# EAGLE library part ESP32_M (library LARS_409_MODULES)
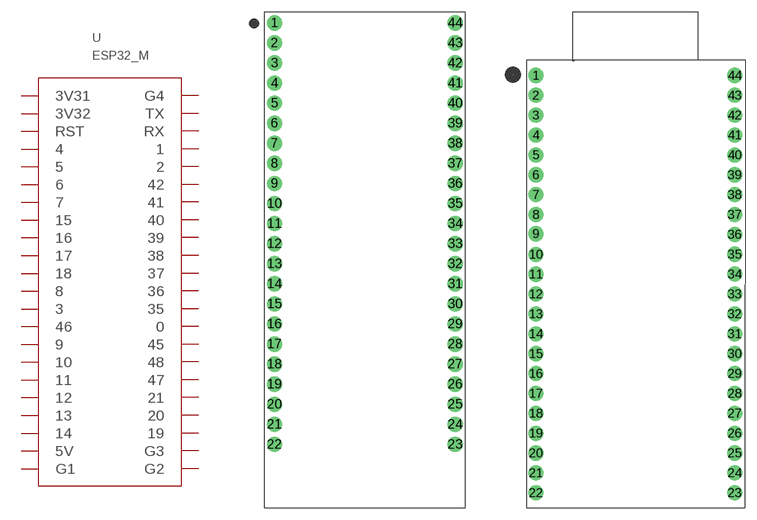
[diagram p16: symbol with the pads of ESP32; footprints ESP32, ESP32-S3-DEVKITC-1]

Designator prefix U

## ESP32_M  [ESP32]
1  3V31
2  3V32
3  RST
4  4
5  5
6  6
7  7
8  15
9  16
10  17
11  18
12  8
13  3
14  46
15  9
16  10
17  11
18  12
19  13
20  14
21  5V
22  G1
23  G2
24  G3
25  19
26  20
27  21
28  47
29  48
30  45
31  0
32  35
33  36
34  37
35  38
36  39
37  40
38  41
39  42
40  2
41  1
42  RX
43  TX
44  G4

## ESP32_MESP32-S3-DEVKITC-1  [ESP32-S3-DEVKITC-1]
Pads as for ESP32

## Footprint ESP32 (pad centres in mm)
drill 1.1 pad 1.93: 1 -11.43,29.97; 2 -11.43,27.43; 3 -11.43,24.89; 4 -11.43,22.35; 5 -11.43,19.81; 6 -11.43,17.27; 7 -11.43,14.73; 8 -11.43,12.19; 9 -11.43,9.65; 10 -11.43,7.11; 11 -11.43,4.57; 12 -11.43,2.03; 13 -11.43,-0.51; 14 -11.43,-3.05; 15 -11.43,-5.59; 16 -11.43,-8.13; 17 -11.43,-10.67; 18 -11.43,-13.21; 19 -11.43,-15.75; 20 -11.43,-18.29; 21 -11.43,-20.83; 22 -11.43,-23.37; 23 11.43,-23.37; 24 11.43,-20.83; 25 11.43,-18.29; 26 11.43,-15.75; 27 11.43,-13.21; 28 11.43,-10.67; 29 11.43,-8.13; 30 11.43,-5.59; 31 11.43,-3.05; 32 11.43,-0.51; 33 11.43,2.03; 34 11.43,4.57; 35 11.43,7.11; 36 11.43,9.65; 37 11.43,12.19; 38 11.43,14.73; 39 11.43,17.27; 40 11.43,19.81; 41 11.43,22.35; 42 11.43,24.89; 43 11.43,27.43; 44 11.43,29.97

## Footprint ESP32-S3-DEVKITC-1 (pad centres in mm)
drill 1.1 pad 1.93: 1 -12.7,26.675; 2 -12.7,24.135; 3 -12.7,21.595; 4 -12.7,19.055; 5 -12.7,16.515; 6 -12.7,13.975; 7 -12.7,11.435; 8 -12.7,8.895; 9 -12.7,6.445; 10 -12.7,3.815; 11 -12.7,1.275; 12 -12.7,-1.265; 13 -12.7,-3.805; 14 -12.7,-6.345; 15 -12.7,-8.885; 16 -12.7,-11.425; 17 -12.7,-13.965; 18 -12.7,-16.505; 19 -12.7,-19.045; 20 -12.7,-21.585; 21 -12.7,-24.125; 22 -12.7,-26.665; 23 12.7,-26.66; 24 12.7,-24.12; 25 12.7,-21.58; 26 12.7,-19.04; 27 12.7,-16.5; 28 12.7,-13.96; 29 12.7,-11.42; 30 12.7,-8.88; 31 12.7,-6.34; 32 12.7,-3.8; 33 12.7,-1.26; 34 12.7,1.28; 35 12.7,3.82; 36 12.7,6.36; 37 12.7,8.9; 38 12.7,11.44; 39 12.7,13.98; 40 12.7,16.52; 41 12.7,19.06; 42 12.7,21.6; 43 12.7,24.14; 44 12.7,26.68